# Altium footprint library 给学生的封装库2024-3（已改）.pcblib: 23 footprints (part 1 of 2)
Each footprint in its own frame and in the unit in brackets; x right, y up, seen from the top. Pads: shape width x height; smd on the part's side, far side on the other; paste and mask are expansions set on the pad; w line width, h text height; cw(c..) or ccw(c..) is an arc to the next point about the centre after c.
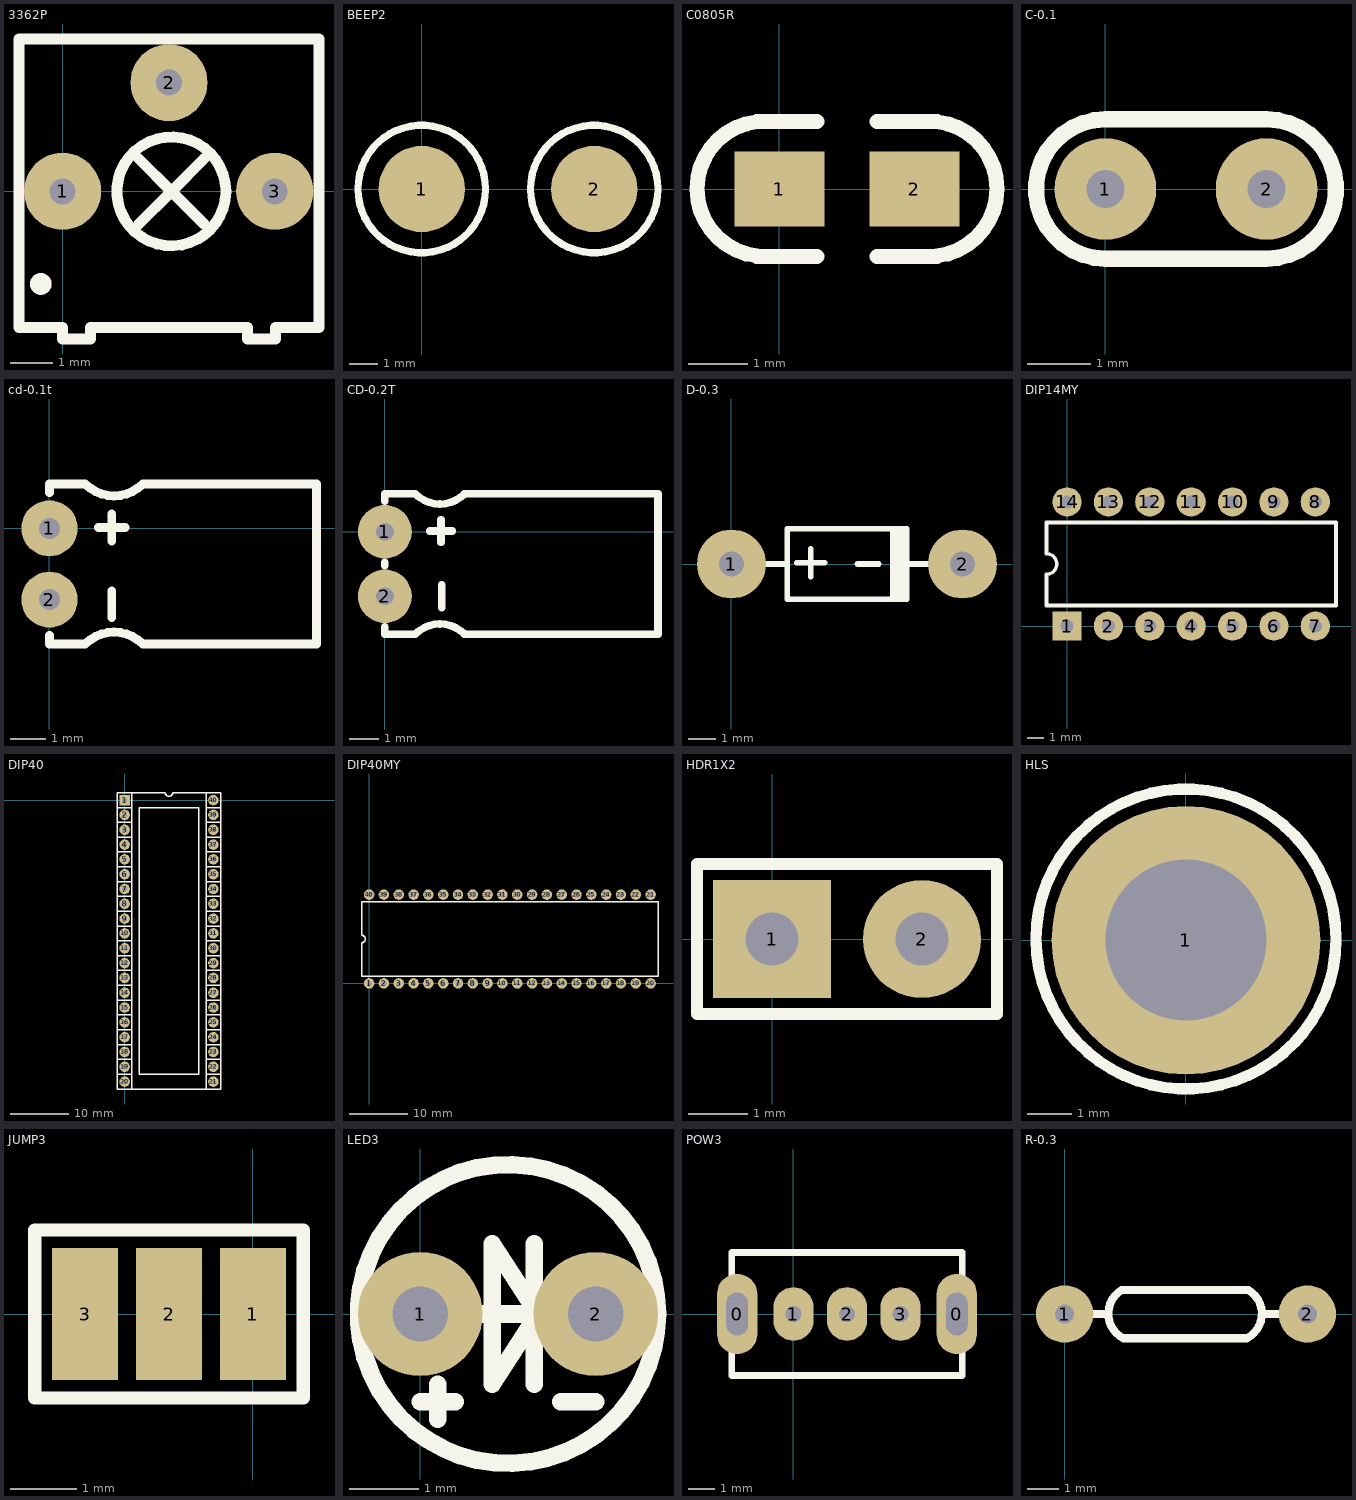
[diagram p0: the footprints below, top view; thin cyan lines are the x and y axes]

## 3362P [mm]
pads (3):
  round 1.8 hole 0.6: 1(0,0) 2(2.484,2.54) 3(4.953,0)
Top Overlay:
  circle w0.254: c-0.508,-2.159 r0.127
  circle w0.254: c2.54,0 r1.27
  lines w0.254: 1.778,-0.762 2.54,0 ; 1.778,0.762 2.54,0 ; 3.302,-0.762 2.54,0 ; 3.302,0.762 2.54,0 ; -1.016,-3.175 0,-3.175 0,-3.444 0.65,-3.444 0.65,-3.175 4.318,-3.175 4.318,-3.444 4.968,-3.444 4.968,-3.175 5.984,-3.175 5.984,3.556 -1.016,3.556 -1.016,-3.175

## BEEP2 [mm]
height 5.6
pads (2):
  round 3 smd: 1(0,0) 2(6,0)
Top Overlay:
  circle w0.254: c6,0 r2.218
  circle w0.254: c0,0 r2.218

## C0805R [mil]
height 220.47
pads (2):
  rect 60x50 smd: 1(0,0) 2(90,0)
Top Overlay:
  lines w10: -15,-45 25,-45 ; -15,-44.44 cw(c-9.97,0.28) -14.94,45 25,45 ; 65,-45 105.06,-45 ; 65,45 105,45 cw(c100.03,0.28) 105.06,-44.44

## C-0.1 [mm]
height 5.34
pads (2):
  round 1.6 hole 0.6: 1(0,0) 2(2.54,0)
Top Overlay:
  lines w0.254: -0.001,-1.1 cw(c0.005,0) 0,1.1 2.54,1.1 cw(c2.535,0) 2.54,-1.1 0,-1.1

## cd-0.1t [mm]
height 5.6
pads (2):
  round 1.6 hole 0.6: 1(0,0) 2(0,-2.032)
Top Overlay:
  lines w0.254: 0,-3.048 0,-3.302 1.016,-3.302 cw(c1.841,-4.127) 2.667,-3.302 7.62,-3.302 7.62,1.27 2.667,1.27 cw(c1.841,2.095) 1.016,1.27 0,1.27 0,1.016 ; 1.397,0.025 2.159,0.025 ; 1.778,-2.54 1.778,-1.778 ; 1.778,-0.356 1.778,0.406

## CD-0.2T [mm]
height 5.6
pads (2):
  round 1.8 hole 0.6: 1(0,0) 2(0,-2.159)
Top Overlay:
  lines w0.254: 0,-3.175 0,-3.429 1.016,-3.429 cw(c1.841,-4.255) 2.667,-3.429 9.144,-3.429 9.144,1.27 2.667,1.27 cw(c1.841,2.095) 1.016,1.27 0,1.27 0,1.016 ; 0,-1.143 0,-1.016 ; 1.499,0.025 2.261,0.025 ; 1.88,-0.356 1.88,0.406 ; 1.905,-2.54 1.905,-1.778

## D-0.3 [mm] "Diode, Axial; Body 5.2 x 2.7 mm (LxDia. max), Lead Dia. 0.86 mm (max)"
height 2.8
pads (2):
  round 2.5 hole 0.9: 1(0,0) 2(8.382,0)
Top Overlay:
  lines w0.2: 1.016,0 2.032,0 ; 2.36,0.051 3.376,0.051 ; 2.868,-0.457 2.868,0.559 ; 4.572,0 5.334,0 ; 5.842,-1.27 5.842,1.27 ; 5.969,-1.27 5.969,1.27 ; 6.096,-1.27 6.096,1.27 ; 6.223,-1.143 6.223,1.143 ; 6.35,0 7.366,0 ; 2.032,-1.27 6.35,-1.27 6.35,1.27 2.032,1.27 2.032,-1.27

## DIP14MY [mm]
height 5.6
pads (14):
  rect 1.8x1.8 hole 0.8: 1(0,0)
  round 1.8 hole 0.8: 2(2.54,0) 3(5.08,0) 4(7.62,0) 5(10.16,0) 6(12.7,0) 7(15.24,0) 8(15.24,7.62) 9(12.7,7.62) 10(10.16,7.62) 11(7.62,7.62) 12(5.08,7.62) 13(2.54,7.62) 14(0,7.62)
Top Overlay:
  lines w0.2: -1.27,3.175 ccw(c-1.27,3.81) -1.27,4.445
  lines w0.254: -1.27,3.175 -1.27,1.27 16.51,1.27 16.51,6.35 -1.27,6.35 -1.27,4.445

## DIP40 [mm]
height 5.34
pads (40):
  rect 1.8x1.8 hole 0.8: 1(0,0)
  round 1.8 hole 0.8: 2(0,-2.54) 3(0,-5.08) 4(0,-7.62) 5(0,-10.16) 6(0,-12.7) 7(0,-15.24) 8(0,-17.78) 9(0,-20.32) 10(0,-22.86) 11(0,-25.4) 12(0,-27.94) 13(0,-30.48) 14(0,-33.02) 15(0,-35.56) 16(0,-38.1) 17(0,-40.64) 18(0,-43.18) 19(0,-45.72) 20(0,-48.26) 21(15.24,-48.26) 22(15.24,-45.72) 23(15.24,-43.18) 24(15.24,-40.64) 25(15.24,-38.1) 26(15.24,-35.56) 27(15.24,-33.02) 28(15.24,-30.48) 29(15.24,-27.94) 30(15.24,-25.4) 31(15.24,-22.86) 32(15.24,-20.32) 33(15.24,-17.78) 34(15.24,-15.24) 35(15.24,-12.7) 36(15.24,-10.16) 37(15.24,-7.62) 38(15.24,-5.08) 39(15.24,-2.54) 40(15.24,0)
Top Overlay:
  lines w0.254: -1.27,-46.99 1.27,-46.99 ; -1.27,-44.45 1.27,-44.45 ; -1.27,-41.91 1.27,-41.91 ; -1.27,-39.37 1.27,-39.37 ; -1.27,-36.83 1.27,-36.83 ; -1.27,-34.29 1.27,-34.29 ; -1.27,-31.75 1.27,-31.75 ; -1.27,-29.21 1.27,-29.21 ; -1.27,-26.67 1.27,-26.67 ; -1.27,-24.13 1.27,-24.13 ; -1.27,-21.59 1.27,-21.59 ; -1.27,-19.05 1.27,-19.05 ; -1.27,-16.51 1.27,-16.51 ; -1.27,-13.97 1.27,-13.97 ; -1.27,-11.43 1.27,-11.43 ; -1.27,-8.89 1.27,-8.89 ; -1.27,-6.35 1.27,-6.35 ; -1.27,-3.81 1.27,-3.81 ; -1.27,-1.27 1.27,-1.27 ; 1.27,-49.53 1.27,-46.99 ; 1.27,1.27 1.27,-1.27 ; 13.97,-49.53 13.97,-46.99 ; 13.97,-44.45 16.51,-44.45 ; 13.97,-41.91 16.51,-41.91 ; 13.97,-39.37 16.51,-39.37 ; 13.97,-36.83 16.51,-36.83 ; 13.97,-34.29 16.51,-34.29 ; 13.97,-31.75 16.51,-31.75 ; 13.97,-29.21 16.51,-29.21 ; 13.97,-26.67 16.51,-26.67 ; 13.97,-24.13 16.51,-24.13 ; 13.97,-21.59 16.51,-21.59 ; 13.97,-19.05 16.51,-19.05 ; 13.97,-16.51 16.51,-16.51 ; 13.97,-13.97 16.51,-13.97 ; 13.97,-11.43 16.51,-11.43 ; 13.97,-8.89 16.51,-8.89 ; 13.97,-6.35 16.51,-6.35 ; 13.97,-3.81 16.51,-3.81 ; 13.97,1.27 13.97,-1.27 ; 16.51,-46.99 13.97,-46.99 ; 16.51,-1.27 13.97,-1.27 ; 1.27,-46.99 1.27,-1.27 ; 13.97,-46.99 13.97,-1.27 ; -1.27,-49.53 16.51,-49.53 16.51,1.27 8.255,1.27 cw(c7.62,1.27) 6.985,1.27 -1.27,1.27 -1.27,-49.53 ; 2.54,-46.99 2.54,-1.27 12.7,-1.27 12.7,-46.99 2.54,-46.99

## DIP40MY [mm]
height 5.34
pads (40):
  round 1.8 hole 0.8: 1(0,0) 2(2.54,0) 3(5.08,0) 4(7.62,0) 5(10.16,0) 6(12.7,0) 7(15.24,0) 8(17.78,0) 9(20.32,0) 10(22.86,0) 11(25.4,0) 12(27.94,0) 13(30.48,0) 14(33.02,0) 15(35.56,0) 16(38.1,0) 17(40.64,0) 18(43.18,0) 19(45.72,0) 20(48.26,0) 21(48.26,15.24) 22(45.72,15.24) 23(43.18,15.24) 24(40.64,15.24) 25(38.1,15.24) 26(35.56,15.24) 27(33.02,15.24) 28(30.48,15.24) 29(27.94,15.24) 30(25.4,15.24) 31(22.86,15.24) 32(20.32,15.24) 33(17.78,15.24) 34(15.24,15.24) 35(12.7,15.24) 36(10.16,15.24) 37(7.62,15.24) 38(5.08,15.24) 39(2.54,15.24) 40(0,15.24)
Top Overlay:
  lines w0.254: -1.27,1.27 1.27,1.27 46.99,1.27 49.53,1.27 49.53,13.97 46.99,13.97 1.27,13.97 -1.27,13.97 -1.27,8.255 cw(c-1.27,7.62) -1.27,6.985 -1.27,1.27

## HDR1X2 [mm] "Connector; Header; 2 Position"
pads (2):
  rect 2x2 hole 0.9: 1(0,0)
  round 2 hole 0.9: 2(2.54,0)
Top Overlay:
  lines w0.2: -1.27,-1.27 3.81,-1.27 3.81,1.27 -1.27,1.27 -1.27,-1.27

## HLS [mm]
pads (1):
  round 6 hole 3.6: 1(0,0)
Top Overlay:
  circle w0.254: c0,0.025 r3.35

## JUMP3 [mm]
height 5.34
pads (3):
  rect 1x2 smd: 1(0,0) 2(-1.27,0) 3(-2.54,0)
Top Overlay:
  lines w0.2: -3.302,-1.27 0.762,-1.27 0.762,1.27 -3.302,1.27 -3.302,-1.27

## LED3 [mm]
pads (2):
  round 1.8 hole 0.8: 1(0,0) 2(2.54,0)
Top Overlay:
  circle w0.254: c1.27,0 r2.163
  lines w0.254: 0,-1.27 0.508,-1.27 ; 0.254,-1.524 0.254,-1.016 ; 0.889,0 1.905,0 ; 1.651,-1.016 1.651,1.016 ; 2.032,-1.27 2.54,-1.27 ; 1.041,-1.016 1.041,1.016 1.702,0 1.041,-1.016

## POW3 [mm]
pads (5):
  oval 1.5x3 hole 0.8 slot 1.6 at 90 deg: 0(-2.1,0) 0(6.1,0)
  oval 1.5x2 hole 0.6: 1(0,0) 2(2,0) 3(4,0)
Top Overlay:
  lines w0.254: -2.3,-2.3 -2.3,2.3 6.3,2.3 6.3,-2.3 -2.3,-2.3

## R-0.3 [mm]
pads (2):
  round 1.8 hole 0.6: 1(0,0) 2(7.62,0)
Top Overlay:
  lines w0.254: 0.889,0 1.27,0 ; 6.223,0 6.731,0 ; 1.789,0.751 ccw(c2.233,0.01) 1.847,-0.762 5.715,-0.762 ccw(c5.329,0.01) 5.773,0.751 1.789,0.751